# Altium footprint library Displays.PcbLib: 1 footprints
Each footprint in its own frame and in the unit in brackets; x right, y up, seen from the top. Pads: shape width x height; smd on the part's side, far side on the other; paste and mask are expansions set on the pad; w line width, h text height; cw(c..) or ccw(c..) is an arc to the next point about the centre after c.
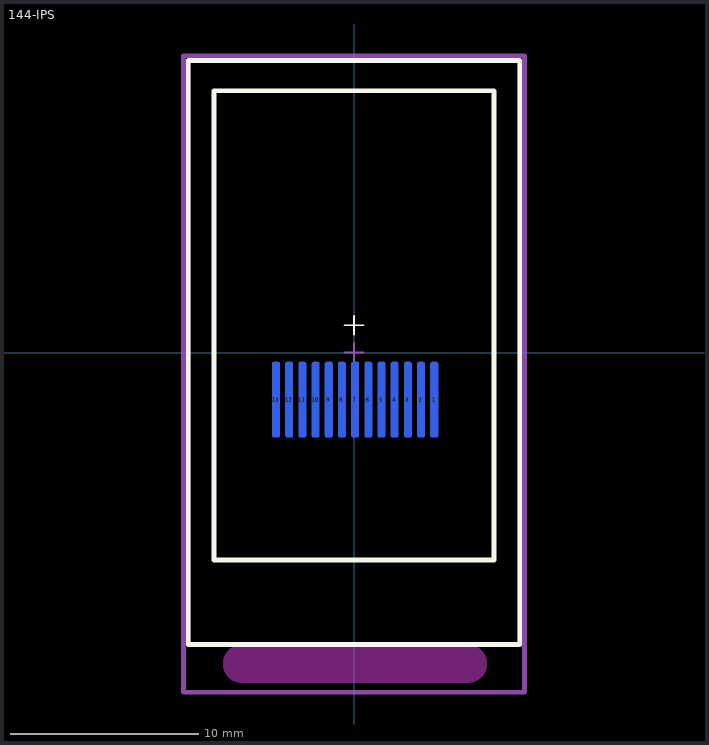
[diagram p0: the footprint, top view; thin cyan lines are the x and y axes]

## 144-IPS [mm] "1.44 TFT IPS"
pads (13):
  rrect50% 0.4x4 smd far side: 1(4.26,-2.5) 2(3.56,-2.5) 3(2.86,-2.5) 4(2.16,-2.5) 5(1.46,-2.5) 6(0.76,-2.5) 7(0.06,-2.5) 8(-0.64,-2.5) 9(-1.34,-2.5) 10(-2.04,-2.5) 11(-2.74,-2.5) 12(-3.44,-2.5) 13(-4.14,-2.5)
Top Overlay:
  lines w0.1: -0.5,1.45 0.5,1.45 ; 0,0.95 0,1.95
  lines w0.254: 7.425,15.5 8.8,15.498 ; 8.8,15.498 8.8,-15.5 -8.8,-15.5 -8.8,15.498 8.8,15.498 ; -7.43,-11.01 -7.43,13.9 7.43,13.9 7.43,-11.01 -7.43,-11.01
Bottom Overlay:
  circle w0.254: c-5.14,-6.5 r0.1
  circle w0.254: c5.26,-6.5 r0.058
  lines w0.254: -6.14,-4.5 -6.14,-2.5 -4.717,-2.5 ; 4.808,-2.5 6.26,-2.5 6.26,-4.5
  text "1" at 5.704,-2.228 h0.76
  text "13" at -4.951,-2.185 h0.76
Keep-Out Layer:
  board cut-out: -5.937,-17.525 -6.037,-17.525 -6.233,-17.486 -6.417,-17.41 -6.583,-17.299 -6.724,-17.158 -6.835,-16.992 -6.911,-16.808 -6.95,-16.612 -6.95,-16.512 -6.95,-16.413 -6.911,-16.217 -6.835,-16.033 -6.724,-15.867 -6.583,-15.726 -6.417,-15.615 -6.233,-15.539 -6.037,-15.5 -5.937,-15.5 6.038,-15.5 6.137,-15.5 6.333,-15.539 6.517,-15.615 6.683,-15.726 6.824,-15.867 6.935,-16.033 7.011,-16.217 7.05,-16.413 7.05,-16.512 7.05,-16.612 7.011,-16.808 6.935,-16.992 6.824,-17.158 6.683,-17.299 6.517,-17.41 6.333,-17.486 6.137,-17.525 6.038,-17.525
Mechanical 13:
  lines w0.254: -8.8,-15.5 8.8,-15.5 8.8,15.5 -8.8,15.5 -8.8,-15.5
Mechanical 15:
  lines w0.1: -0.5,0 0.5,0 ; 0,-0.5 0,0.5
  lines w0.254: -9.05,-18.025 9.05,-18.025 9.05,15.75 -9.05,15.75 -9.05,-18.025
3D body "IPS-1.14.SLDPRT": height 1.82, standoff 0.04, extent -8.8,-15.5 8.8,15.5